# Altium schematic symbol library Misc.SchLib: 2 symbols
Pins are listed as number, name and electrical type; pins without a type are passive.

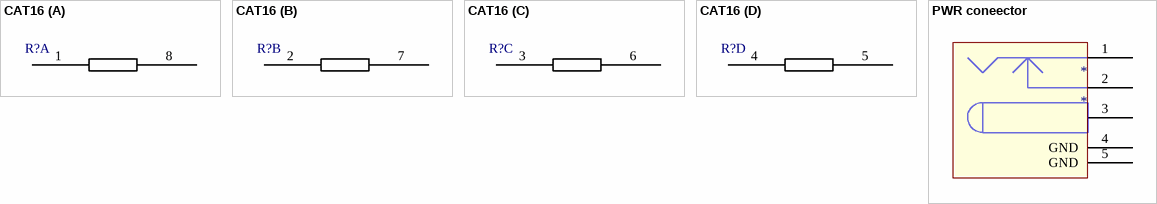
[diagram p0: symbols CAT16 to PWR coneector]

## CAT16
designator R?  (value not drawn)
Резисторная сборка; Value: 470
footprint CAT16
part A pins: 1, 8
part B pins: 2, 7
part C pins: 3, 6
part D pins: 4, 5

## PWR coneector
designator *
footprint PWR Con (Connector)
pins: 1, 2, 3, 4 GND, 5 GND